# Altium schematic symbol library SCH - MCU - STM32 - ST MICROELECTRONICS STM32F302VCYX WLCSP100.SchLib: 1 symbol
Pins are listed as number, name and electrical type; pins without a type are passive.

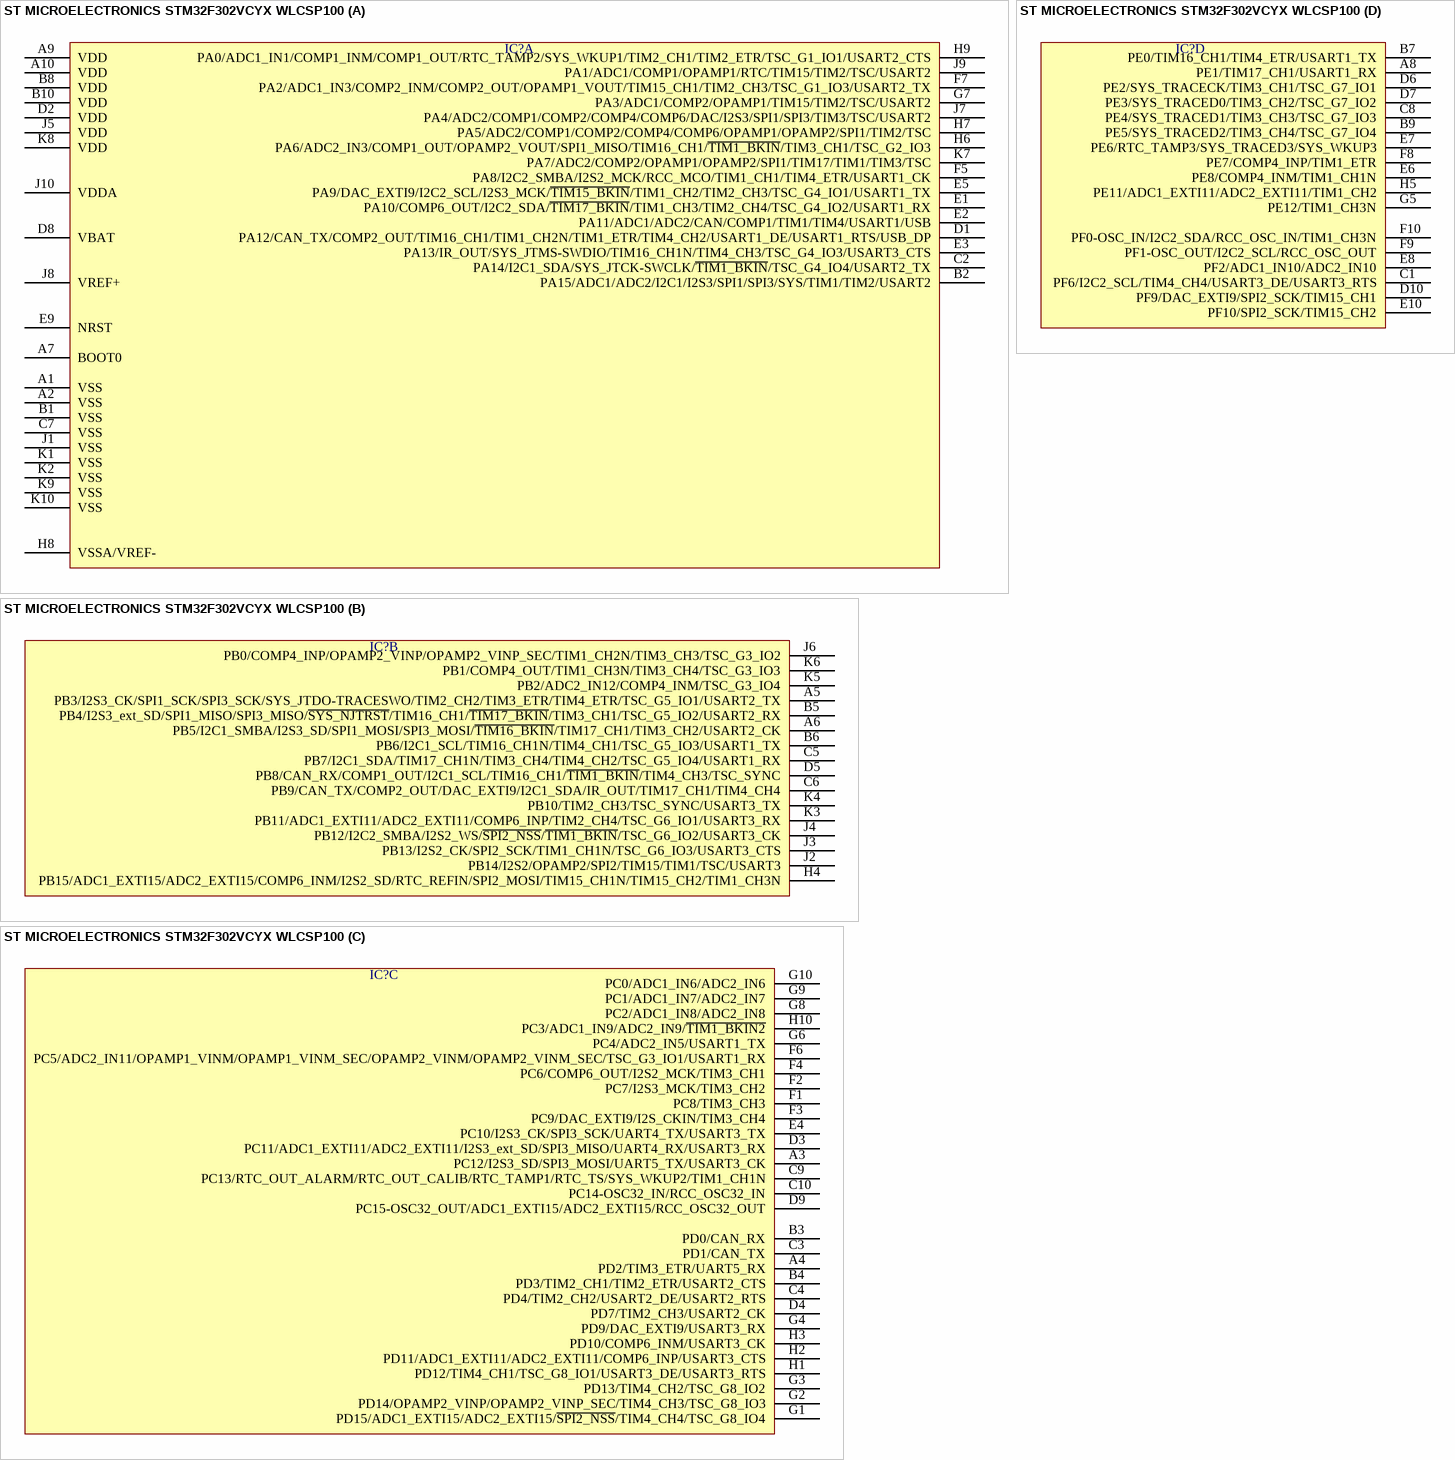
[diagram p0: symbol ST MICROELECTRONICS STM32F302VCYX WLCSP100]

## ST MICROELECTRONICS STM32F302VCYX WLCSP100
designator IC?  (value not drawn)
part A pins: A1 VSS, A2 VSS, A7 BOOT0, A9 VDD, A10 VDD, B1 VSS, B2 PA15/ADC1/ADC2/I2C1/I2S3/SPI1/SPI3/SYS/TIM1/TIM2/USART2, B8 VDD, B10 VDD, C2 PA14/I2C1_SDA/SYS_JTCK-SWCLK/~{TIM1_BKIN}/TSC_G4_IO4/USART2_TX, C7 VSS, D1 PA12/CAN_TX/COMP2_OUT/TIM16_CH1/TIM1_CH2N/TIM1_ETR/TIM4_CH2/USART1_DE/USART1_RTS/USB_DP, D2 VDD, D8 VBAT, E1 PA10/COMP6_OUT/I2C2_SDA/~{TIM17_BKIN}/TIM1_CH3/TIM2_CH4/TSC_G4_IO2/USART1_RX, E2 PA11/ADC1/ADC2/CAN/COMP1/TIM1/TIM4/USART1/USB, E3 PA13/IR_OUT/SYS_JTMS-SWDIO/TIM16_CH1N/TIM4_CH3/TSC_G4_IO3/USART3_CTS, E5 PA9/DAC_EXTI9/I2C2_SCL/I2S3_MCK/~{TIM15_BKIN}/TIM1_CH2/TIM2_CH3/TSC_G4_IO1/USART1_TX, E9 NRST, F5 PA8/I2C2_SMBA/I2S2_MCK/RCC_MCO/TIM1_CH1/TIM4_ETR/USART1_CK, F7 PA2/ADC1_IN3/COMP2_INM/COMP2_OUT/OPAMP1_VOUT/TIM15_CH1/TIM2_CH3/TSC_G1_IO3/USART2_TX, G7 PA3/ADC1/COMP2/OPAMP1/TIM15/TIM2/TSC/USART2, H6 PA6/ADC2_IN3/COMP1_OUT/OPAMP2_VOUT/SPI1_MISO/TIM16_CH1/~{TIM1_BKIN}/TIM3_CH1/TSC_G2_IO3, H7 PA5/ADC2/COMP1/COMP2/COMP4/COMP6/OPAMP1/OPAMP2/SPI1/TIM2/TSC, H8 VSSA/VREF-, H9 PA0/ADC1_IN1/COMP1_INM/COMP1_OUT/RTC_TAMP2/SYS_WKUP1/TIM2_CH1/TIM2_ETR/TSC_G1_IO1/USART2_CTS, J1 VSS, J5 VDD, J7 PA4/ADC2/COMP1/COMP2/COMP4/COMP6/DAC/I2S3/SPI1/SPI3/TIM3/TSC/USART2, J8 VREF+, J9 PA1/ADC1/COMP1/OPAMP1/RTC/TIM15/TIM2/TSC/USART2, J10 VDDA, K1 VSS, K2 VSS, K7 PA7/ADC2/COMP2/OPAMP1/OPAMP2/SPI1/TIM17/TIM1/TIM3/TSC, K8 VDD, K9 VSS, K10 VSS
part B pins: A5 PB3/I2S3_CK/SPI1_SCK/SPI3_SCK/SYS_JTDO-TRACESWO/TIM2_CH2/TIM3_ETR/TIM4_ETR/TSC_G5_IO1/USART2_TX, A6 PB5/I2C1_SMBA/I2S3_SD/SPI1_MOSI/SPI3_MOSI/~{TIM16_BKIN}/TIM17_CH1/TIM3_CH2/USART2_CK, B5 PB4/I2S3_ext_SD/SPI1_MISO/SPI3_MISO/~{SYS_NJTRST}/TIM16_CH1/~{TIM17_BKIN}/TIM3_CH1/TSC_G5_IO2/USART2_RX, B6 PB6/I2C1_SCL/TIM16_CH1N/TIM4_CH1/TSC_G5_IO3/USART1_TX, C5 PB7/I2C1_SDA/TIM17_CH1N/TIM3_CH4/TIM4_CH2/TSC_G5_IO4/USART1_RX, C6 PB9/CAN_TX/COMP2_OUT/DAC_EXTI9/I2C1_SDA/IR_OUT/TIM17_CH1/TIM4_CH4, D5 PB8/CAN_RX/COMP1_OUT/I2C1_SCL/TIM16_CH1/~{TIM1_BKIN}/TIM4_CH3/TSC_SYNC, H4 PB15/ADC1_EXTI15/ADC2_EXTI15/COMP6_INM/I2S2_SD/RTC_REFIN/SPI2_MOSI/TIM15_CH1N/TIM15_CH2/TIM1_CH3N, J2 PB14/I2S2/OPAMP2/SPI2/TIM15/TIM1/TSC/USART3, J3 PB13/I2S2_CK/SPI2_SCK/TIM1_CH1N/TSC_G6_IO3/USART3_CTS, J4 PB12/I2C2_SMBA/I2S2_WS/~{SPI2_NSS}/~{TIM1_BKIN}/TSC_G6_IO2/USART3_CK, J6 PB0/COMP4_INP/OPAMP2_VINP/OPAMP2_VINP_SEC/TIM1_CH2N/TIM3_CH3/TSC_G3_IO2, K3 PB11/ADC1_EXTI11/ADC2_EXTI11/COMP6_INP/TIM2_CH4/TSC_G6_IO1/USART3_RX, K4 PB10/TIM2_CH3/TSC_SYNC/USART3_TX, K5 PB2/ADC2_IN12/COMP4_INM/TSC_G3_IO4, K6 PB1/COMP4_OUT/TIM1_CH3N/TIM3_CH4/TSC_G3_IO3
part C pins: A3 PC12/I2S3_SD/SPI3_MOSI/UART5_TX/USART3_CK, A4 PD2/TIM3_ETR/UART5_RX, B3 PD0/CAN_RX, B4 PD3/TIM2_CH1/TIM2_ETR/USART2_CTS, C3 PD1/CAN_TX, C4 PD4/TIM2_CH2/USART2_DE/USART2_RTS, C9 PC13/RTC_OUT_ALARM/RTC_OUT_CALIB/RTC_TAMP1/RTC_TS/SYS_WKUP2/TIM1_CH1N, C10 PC14-OSC32_IN/RCC_OSC32_IN, D3 PC11/ADC1_EXTI11/ADC2_EXTI11/I2S3_ext_SD/SPI3_MISO/UART4_RX/USART3_RX, D4 PD7/TIM2_CH3/USART2_CK, D9 PC15-OSC32_OUT/ADC1_EXTI15/ADC2_EXTI15/RCC_OSC32_OUT, E4 PC10/I2S3_CK/SPI3_SCK/UART4_TX/USART3_TX, F1 PC8/TIM3_CH3, F2 PC7/I2S3_MCK/TIM3_CH2, F3 PC9/DAC_EXTI9/I2S_CKIN/TIM3_CH4, F4 PC6/COMP6_OUT/I2S2_MCK/TIM3_CH1, F6 PC5/ADC2_IN11/OPAMP1_VINM/OPAMP1_VINM_SEC/OPAMP2_VINM/OPAMP2_VINM_SEC/TSC_G3_IO1/USART1_RX, G1 PD15/ADC1_EXTI15/ADC2_EXTI15/~{SPI2_NSS}/TIM4_CH4/TSC_G8_IO4, G2 PD14/OPAMP2_VINP/OPAMP2_VINP_SEC/TIM4_CH3/TSC_G8_IO3, G3 PD13/TIM4_CH2/TSC_G8_IO2, G4 PD9/DAC_EXTI9/USART3_RX, G6 PC4/ADC2_IN5/USART1_TX, G8 PC2/ADC1_IN8/ADC2_IN8, G9 PC1/ADC1_IN7/ADC2_IN7, G10 PC0/ADC1_IN6/ADC2_IN6, H1 PD12/TIM4_CH1/TSC_G8_IO1/USART3_DE/USART3_RTS, H2 PD11/ADC1_EXTI11/ADC2_EXTI11/COMP6_INP/USART3_CTS, H3 PD10/COMP6_INM/USART3_CK, H10 PC3/ADC1_IN9/ADC2_IN9/~{TIM1_BKIN2}
part D pins: A8 PE1/TIM17_CH1/USART1_RX, B7 PE0/TIM16_CH1/TIM4_ETR/USART1_TX, B9 PE5/SYS_TRACED2/TIM3_CH4/TSC_G7_IO4, C1 PF6/I2C2_SCL/TIM4_CH4/USART3_DE/USART3_RTS, C8 PE4/SYS_TRACED1/TIM3_CH3/TSC_G7_IO3, D6 PE2/SYS_TRACECK/TIM3_CH1/TSC_G7_IO1, D7 PE3/SYS_TRACED0/TIM3_CH2/TSC_G7_IO2, D10 PF9/DAC_EXTI9/SPI2_SCK/TIM15_CH1, E6 PE8/COMP4_INM/TIM1_CH1N, E7 PE6/RTC_TAMP3/SYS_TRACED3/SYS_WKUP3, E8 PF2/ADC1_IN10/ADC2_IN10, E10 PF10/SPI2_SCK/TIM15_CH2, F8 PE7/COMP4_INP/TIM1_ETR, F9 PF1-OSC_OUT/I2C2_SCL/RCC_OSC_OUT, F10 PF0-OSC_IN/I2C2_SDA/RCC_OSC_IN/TIM1_CH3N, G5 PE12/TIM1_CH3N, H5 PE11/ADC1_EXTI11/ADC2_EXTI11/TIM1_CH2